# Altium schematic symbol library Schematic Library Template.SchLib: 12 symbols
Pins are listed as number, name and electrical type; pins without a type are passive.

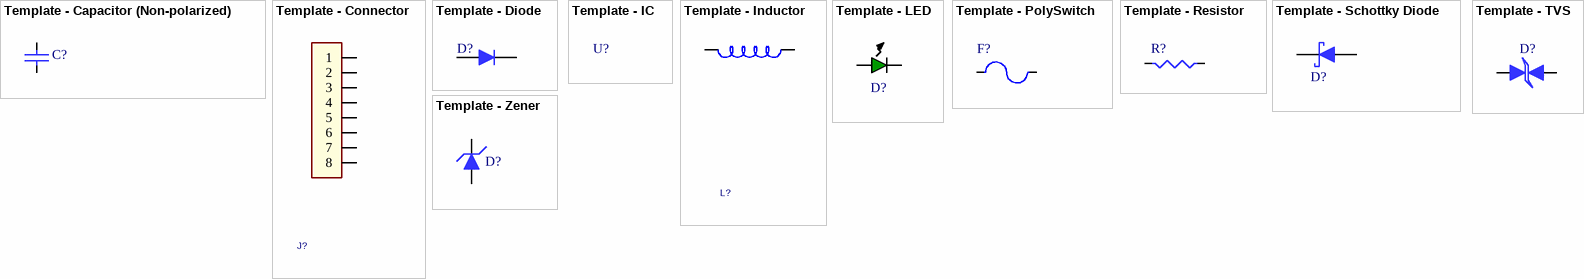
[diagram p0: symbols Template - Capacitor (Non-polarized) to Template - Zener]

## Template - Capacitor (Non-polarized)
designator C?
Non-polarized; Price P/N: TBD Capacitor; Technology: SMT
pins: 1, 2

## Template - Connector
designator J?
Price P/N: TBD Connector; Technology: THT
pins: 1, 2, 3, 4, 5, 6, 7, 8

## Template - Diode
designator D?
Price P/N: TBD Diode; Technology: SMT
pins: 1 Anode, 2 Cathode

## Template - IC
designator U?
Price P/N: TBD IC; Technology: SMT

## Template - Inductor
designator L?
Inductor; Price P/N: TBD Inductor; Technology: SMT
pins: 1, 2

## Template - LED
designator D?
Price P/N: TBD LED; Technology: SMT
pins: 1, 2

## Template - Mechanical
designator L?  (mechanical)
Price P/N: TBD Mechanical; Technology: Mechanical

## Template - PolySwitch
designator F?  (value not drawn)
Self-reseting fuse; Price P/N: TBD Polyswitch; Technology: THT
pins: 1 (power), 2 (power)

## Template - Resistor
designator R?
Resistor; Price P/N: TBD Resistor; Technology: SMT
pins: 1, 2

## Template - Schottky Diode
designator D?
Price P/N: TBD Schottky; Technology: SMT
pins: 1, 2

## Template - TVS
designator D?
TVS; Price P/N: TBD TVS; Technology: SMT
pins: 1 Anode, 2 Cathode

## Template - Zener
designator D?
Price P/N: TBD Zener; Technology: SMT
pins: 1 Anode, 2 Cathode